# Altium schematic symbol library Schlib.SchLib: 5 symbols
Pins are listed as number, name and electrical type; pins without a type are passive.

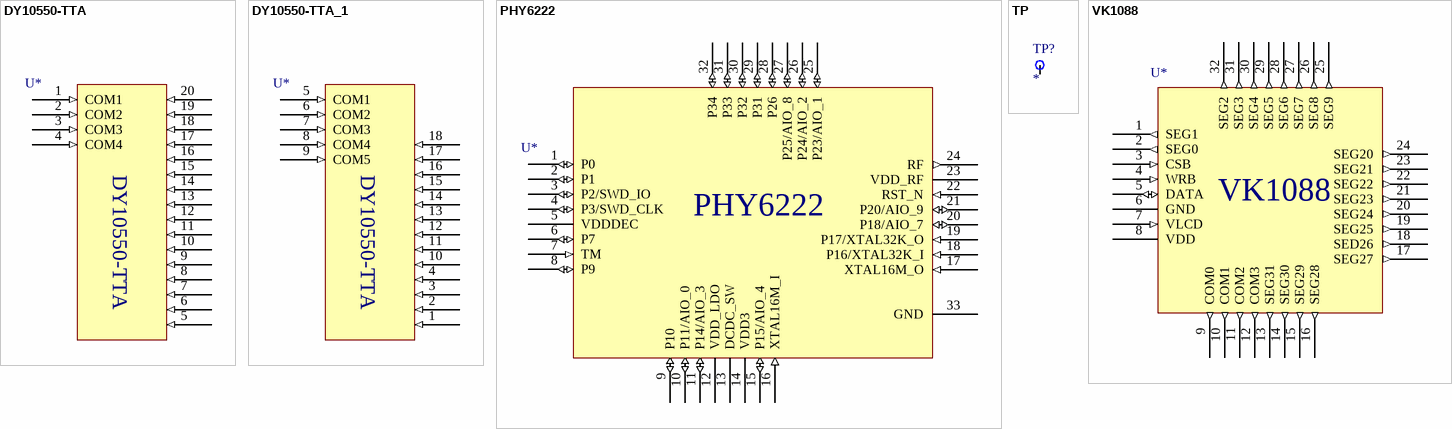
[diagram p0: symbols DY10550-TTA to VK1088]

## DY10550-TTA
designator U*  (value not drawn)
pins: 1 COM1 (in), 2 COM2 (in), 3 COM3 (in), 4 COM4 (in), 5 (in), 6 (in), 7 (in), 8 (in), 9 (in), 10 (in), 11 (in), 12 (in), 13 (in), 14 (in), 15 (in), 16 (in), 17 (in), 18 (in), 19 (in), 20 (in)

## DY10550-TTA_1
designator U*  (value not drawn)
pins: 1 (in), 2 (in), 3 (in), 4 (in), 5 COM1 (in), 6 COM2 (in), 7 COM3 (in), 8 COM4 (in), 9 COM5 (in), 10 (in), 11 (in), 12 (in), 13 (in), 14 (in), 15 (in), 16 (in), 17 (in), 18 (in)
text: DY10550-TTA

## PHY6222
designator U*, comment U*  (value not drawn)
pins: 1 P0 (io), 2 P1 (io), 3 P2/SWD_IO (io), 4 P3/SWD_CLK (io), 5 VDDDEC (power), 6 P7 (io), 7 TM (in), 8 P9 (io), 9 P10 (io), 10 P11/AIO_0 (io), 11 P14/AIO_3 (io), 12 VDD_LDO (power), 13 DCDC_SW (power), 14 VDD3 (power), 15 P15/AIO_4 (io), 16 XTAL16M_I (in), 17 XTAL16M_O (in), 18 P16/XTAL32K_I (in), 19 P17/XTAL32K_O (in), 20 P18/AIO_7 (io), 21 P20/AIO_9 (io), 22 RST_N (in), 23 VDD_RF (power), 24 RF (out), 25 P23/AIO_1 (io), 26 P24/AIO_2 (io), 27 P25/AIO_8 (io), 28 P26 (io), 29 P31 (io), 30 P32 (io), 31 P33 (io), 32 P34 (io), 33 GND (power)

## TP
designator TP?
pins: 0

## VK1088
designator U*, comment U*  (value not drawn)
pins: 1 SEG1 (out), 2 SEG0 (out), 3 CSB (in), 4 WRB (in), 5 DATA (io), 6 GND (power), 7 VLCD (in), 8 VDD (power), 9 COM0 (out), 10 COM1 (out), 11 COM2 (out), 12 COM3 (out), 13 SEG31 (out), 14 SEG30 (out), 15 SEG29 (out), 16 SEG28 (out), 17 SEG27 (out), 18 SED26 (out), 19 SEG25 (out), 20 SEG24 (out), 21 SEG23 (out), 22 SEG22 (out), 23 SEG21 (out), 24 SEG20 (out), 25 SEG9 (out), 26 SEG8 (out), 27 SEG7 (out), 28 SEG6 (out), 29 SEG5 (out), 30 SEG4 (out), 31 SEG3 (out), 32 SEG2 (out)